# Altium integrated library 0402 inductor LQG15HS10NJ02D.IntLib: 1 symbol
Pins are listed as number, name and electrical type; pins without a type are passive.

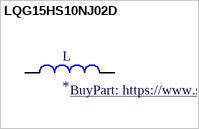
[diagram p0: symbol LQG15HS10NJ02D]

## LQG15HS10NJ02D
designator L
Inductor with Inductance: 10nH Tol. +/-5%, Package: 0402 (1005); MP: LQG15HS10NJ02D; MF: Murata; SnapEDA_Link: https://www.snapeda.com/parts/LQG15HS10NJ02D/Murata%20Electronics%20North%20America/view-part/582608/?ref=snap; Value: *; Package: 1005 Murata; Digi-Key_Part_Number: 490-2623-1-ND; BuyPart: https://www.snapeda.com/parts/LQG15HS10NJ02D/Murata%20Electronics%20North%20America/view-part/582608/?ref=eda
footprint INDC1005X55N
pins: 1, 2